# Altium schematic symbol library PC817.SchLib: 1 symbol
Pins are listed as number, name and electrical type; pins without a type are passive.

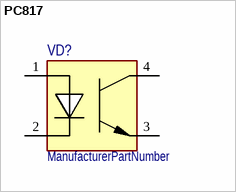
[diagram p0: symbol PC817]

## PC817
designator VD?  (value not drawn)
ManufacturerPartNumber: ManufacturerPartNumber
pins: 1, 2, 3, 4